# Altium schematic symbol library Testpoint.Schlib: 1 symbol
Pins are listed as number, name and electrical type; pins without a type are passive.

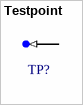
[diagram p0: symbol Testpoint]

## Testpoint
designator TP?  (value not drawn)  (no BOM)
pins: 1 (in)